# Altium footprint library Potentiometer.PcbLib: 1 footprints
Each footprint in its own frame and in the unit in brackets; x right, y up, seen from the top. Pads: shape width x height; smd on the part's side, far side on the other; paste and mask are expansions set on the pad; w line width, h text height; cw(c..) or ccw(c..) is an arc to the next point about the centre after c.
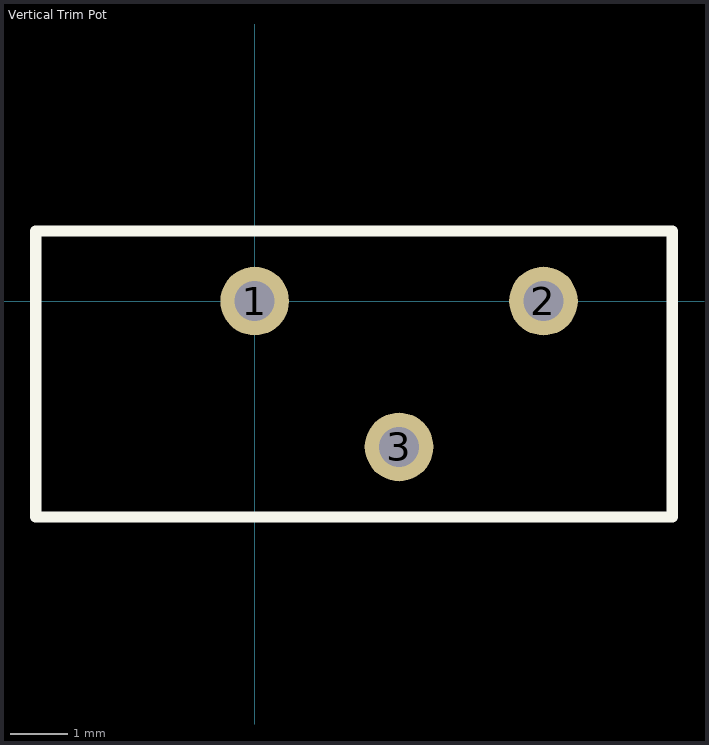
[diagram p0: the footprint, top view; thin cyan lines are the x and y axes]

## Vertical Trim Pot [mm]
pads (3):
  round 1.2 hole 0.7: 1(0,0) 2(5.05,0) 3(2.525,-2.55)
Top Overlay:
  lines w0.2: -3.825,-3.775 7.3,-3.775 7.3,1.225 -3.825,1.225 -3.825,-3.775
3D body: height 10.03, standoff -6.4, extent -3.84,-3.69 7.29,1.14